# Altium footprint library ToneReal.PcbLib: 5 footprints
Each footprint in its own frame and in the unit in brackets; x right, y up, seen from the top. Pads: shape width x height; smd on the part's side, far side on the other; paste and mask are expansions set on the pad; w line width, h text height; cw(c..) or ccw(c..) is an arc to the next point about the centre after c.
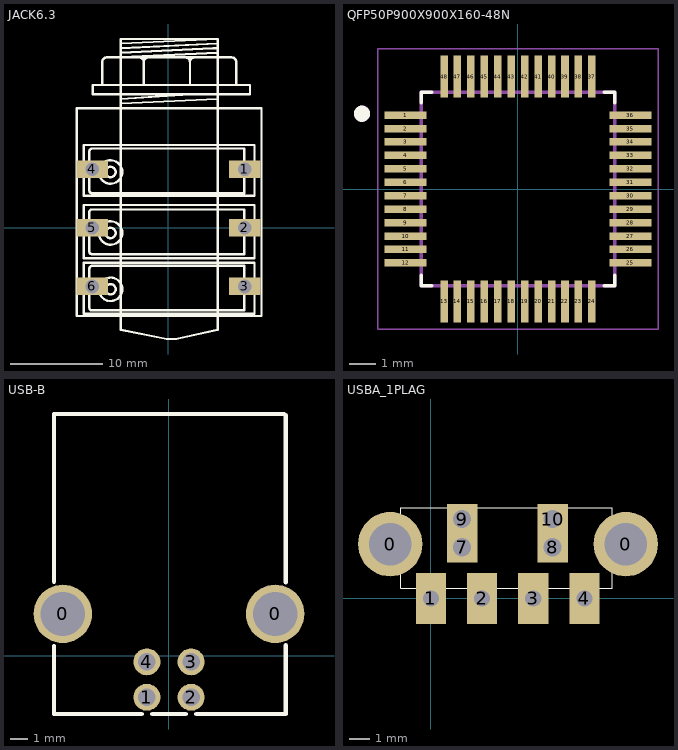
[diagram p0: the footprints below, top view; thin cyan lines are the x and y axes]

## JACK6.3 [mil]
pads (6):
  rect 134.6x74.8 hole 59: 1(325,250) 2(325,0) 3(325,-250) 4(-325,250) 5(-325,0) 6(-325,-250)
Top Overlay:
  circle w10: c-247,-262 r22
  circle w10: c-247,-262 r50
  circle w10: c-247,-22 r22
  circle w10: c-247,-22 r50
  circle w10: c-247,238 r22
  circle w10: c-247,238 r50
  lines w10: -282.27,706.98 cw(c-262.59,706.98) -262.59,726.66 ; -282,707 -282,609 ; -263,727 -204,727 ; -124.8,726.66 cw(c-124.8,706.98) -105.11,706.98 cw(c-85.42,706.98) -85.42,726.66 ; -105,707 -105,609 ; 72.06,726.66 cw(c72.06,706.98) 91.74,706.98 cw(c111.42,706.98) 111.42,726.66 ; 92,707 92,609 ; 268.9,726.66 cw(c268.9,706.98) 288.59,706.98 ; 269,727 111,727 72,727 -85,727 -125,727 -204,727 ; 289,707 289,609 ; -282,609 -105,609 ; -282,609 -322,609 -322,569 92,569 ; -204,-376 -204,-435 -7,-474 33,-474 210,-435 210,-376 ; -204,-376 210,-376 ; -204,-376 -204,510 ; -204,-376 -391,-376 -391,510 -204,510 ; -204,510 -204,530 ; -204,510 210,510 ; -204,530 210,549 ; -204,530 -204,549 ; -204,549 92,569 ; -204,549 -204,727 ; -204,727 210,746 ; -204,727 -204,746 ; -204,746 190,766 210,766 ; -204,746 -204,766 ; -204,766 210,786 ; -204,766 -204,786 ; -204,786 210,805 ; -204,786 -204,805 210,805 ; -105,609 92,609 ; 92,569 348,569 348,609 289,609 ; 92,609 289,609 ; 210,-376 210,510 ; 210,-376 397,-376 397,510 210,510 ; 210,510 210,549 ; 210,549 210,746 ; 210,746 210,766 ; 210,766 210,786 ; 210,786 210,805 ; -361,-366 -361,-149 367,-149 367,-366 -361,-366 ; -361,-130 -361,97 367,97 367,-130 -361,-130 ; -361,136 -361,353 367,353 367,136 -361,136 ; -337,-342 ccw(c-327,-342) -327,-352 323,-352 323,-162 -327,-162 ccw(c-322.01,-176.99) -337,-182 -337,-342 ; -337,-102 ccw(c-327,-102) -327,-112 323,-112 323,78 -327,78 ccw(c-327,68) -337,68 -337,-102 ; -337,158 ccw(c-327,158) -327,148 323,148 323,338 -327,338 ccw(c-322.01,323.01) -337,318 -337,158

## PCBComponent_1 [mm]

## QFP50P900X900X160-48N [mm]
pads (48):
  rect 1.56x0.28 smd: 1(-4.18,2.75) 2(-4.18,2.25) 3(-4.18,1.75) 4(-4.18,1.25) 5(-4.18,0.75) 6(-4.18,0.25) 7(-4.18,-0.25) 8(-4.18,-0.75) 9(-4.18,-1.25) 10(-4.18,-1.75) 11(-4.18,-2.25) 12(-4.18,-2.75) 25(4.18,-2.75) 26(4.18,-2.25) 27(4.18,-1.75) 28(4.18,-1.25) 29(4.18,-0.75) 30(4.18,-0.25) 31(4.18,0.25) 32(4.18,0.75) 33(4.18,1.25) 34(4.18,1.75) 35(4.18,2.25) 36(4.18,2.75)
  rect 0.28x1.56 smd: 13(-2.75,-4.18) 14(-2.25,-4.18) 15(-1.75,-4.18) 16(-1.25,-4.18) 17(-0.75,-4.18) 18(-0.25,-4.18) 19(0.25,-4.18) 20(0.75,-4.18) 21(1.25,-4.18) 22(1.75,-4.18) 23(2.25,-4.18) 24(2.75,-4.18) 37(2.75,4.18) 38(2.25,4.18) 39(1.75,4.18) 40(1.25,4.18) 41(0.75,4.18) 42(0.25,4.18) 43(-0.25,4.18) 44(-0.75,4.18) 45(-1.25,4.18) 46(-1.75,4.18) 47(-2.25,4.18) 48(-2.75,4.18)
Top Overlay:
  circle w0.3: c-5.8,2.8 r0.15
  lines w0.127: -3.6,-3.21 -3.6,-3.6 -3.21,-3.6 ; -3.6,3.21 -3.6,3.6 -3.21,3.6 ; 3.21,-3.6 3.6,-3.6 3.6,-3.21 ; 3.21,3.6 3.6,3.6 3.6,3.21
Mechanical 13:
  circle w0.3: c-5.796,2.802 r0.15
  lines w0.127: -3.6,-3.6 -3.6,3.6 3.6,3.6 3.6,-3.6 -3.6,-3.6
Mechanical 15:
  lines w0.05: -5.21,-5.21 -5.21,5.21 5.21,5.21 5.21,-5.21 -5.21,-5.21

## USB-B [mm]
pads (6):
  round 3.3 hole 2.5: 0(-6,2.355) 0(6,2.355)
  round 1.524 hole 1: 1(-1.25,-2.355) 2(1.25,-2.355) 3(1.25,-0.355) 4(-1.25,-0.355)
Top Overlay:
  lines w0.254: -6.5,0.542 -6.5,-3.302 -1.543,-3.302 ; -6.5,4.168 -6.5,13.655 6.5,13.655 ; -0.957,-3.302 0.957,-3.302 ; 1.543,-3.302 6.604,-3.302 6.604,0.574 ; 6.604,4.136 6.604,13.589

## USBA_1PLAG [mm]
pads (10):
  round 3.2 / inner round 1.524 / far side round 1.524 hole 2.1: 0(-2.025,2.7) 0(9.675,2.7)
  rect 1.5x2.54 / inner round 1.524 / far side round 1.524 hole 0.8: 1(0,0) 2(2.54,0) 3(5.08,0) 4(7.62,0)
  rect 1.499x1.499 hole 0.9: 7(1.549,2.548) 8(6.044,2.548) 9(1.549,3.946) 10(6.044,3.946)
Top Overlay:
  lines w0.05: -1.5,0.5 -1.5,4.5 8.999,4.5 8.999,0.5 -1.5,0.5
  text ".Designator" at 0,8.572 h1.43
Mechanical 1:
  text ".Designator" at 0,8.572 h1.43
  text ".Comment" at 0,5.715 h1.43
  text ".Pattern" at 0,0 h1.43
3D body: height 4.5, standoff -1.3, extent -2.506,0.1 10.1,20.4